# Altium footprint library Bibliotecahpta.PcbLib: 22 footprints (part 1 of 2)
Each footprint in its own frame and in the unit in brackets; x right, y up, seen from the top. Pads: shape width x height; smd on the part's side, far side on the other; paste and mask are expansions set on the pad; w line width, h text height; cw(c..) or ccw(c..) is an arc to the next point about the centre after c.
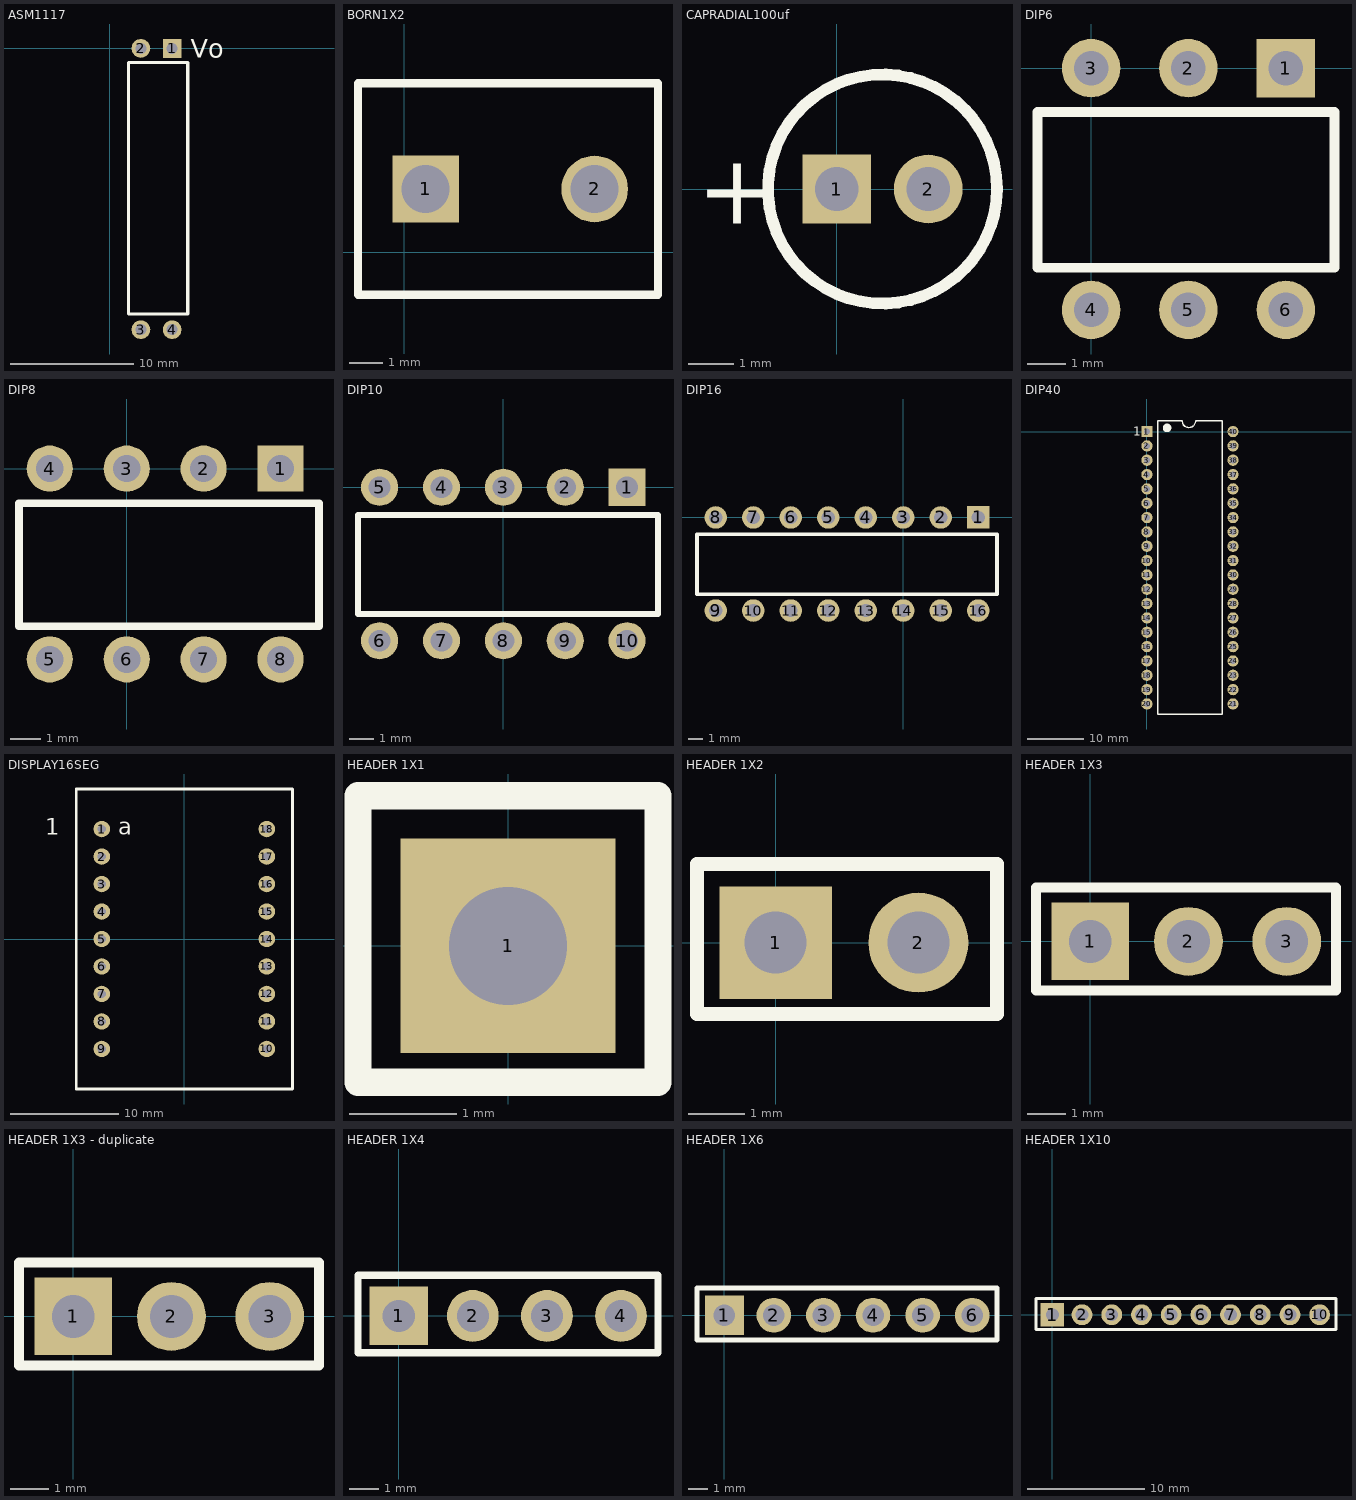
[diagram p0: the footprints below, top view; thin cyan lines are the x and y axes]

## ASM1117 [mil] "Modulo 3.3v"
pads (4):
  rect 60x60 hole 35.43: 1(200,0)
  round 60 hole 35.43: 2(100,0) 3(100,-900) 4(200,-900)
Top Overlay:
  lines w10: 60,-850 250,-850 250,-45 60,-45 60,-850
  text "Vo" at 260,-30 h60

## BORN1X2 [mm]
pads (2):
  rect 2x2 hole 1.45: 1(0.635,1.905)
  round 2 hole 1.45: 2(5.715,1.905)
Top Overlay:
  lines w0.254: -1.397,-1.27 7.62,-1.27 7.62,5.08 -1.397,5.08 -1.397,-1.27

## CAPRADIAL100uf [mm]
pads (2):
  rect 1.5x1.5 hole 0.95: 1(0,0)
  round 1.5 hole 0.95: 2(2,0)
Top Overlay:
  circle w0.254: c1,0 r2.5
  text "+" at -3.048,-0.762 h1.52

## DIP6 [mil]
pads (6):
  rect 60x60 hole 35.43: 1(200,0)
  round 60 hole 35.43: 2(100,0) 3(0,0) 4(0,-248.03) 5(100,-248.03) 6(200,-248.03)
Top Overlay:
  lines w10: -55,-205 -55,-45 250,-45 250,-205 -55,-205

## DIP8 [mil]
pads (8):
  rect 60x60 hole 35.43: 1(200,0)
  round 60 hole 35.43: 2(100,0) 3(0,0) 4(-100,0) 5(-100,-248.03) 6(0,-248.03) 7(100,-248.03) 8(200,-248.03)
Top Overlay:
  lines w10: -140,-205 -140,-45 250,-45 250,-205 -140,-205

## DIP10 [mil]
pads (10):
  rect 60x60 hole 35.43: 1(200,0)
  round 60 hole 35.43: 2(100,0) 3(0,0) 4(-100,0) 5(-200,0) 6(-200,-248.03) 7(-100,-248.03) 8(0,-248.03) 9(100,-248.03) 10(200,-248.03)
Top Overlay:
  lines w10: -235,-205 -235,-45 250,-45 250,-205 -235,-205

## DIP16 [mil]
pads (16):
  rect 60x60 hole 35.43: 1(200,0)
  round 60 hole 35.43: 2(100,0) 3(0,0) 4(-100,0) 5(-200,0) 6(-300,0) 7(-400,0) 8(-500,0) 9(-500,-248.03) 10(-400,-248.03) 11(-300,-248.03) 12(-200,-248.03) 13(-100,-248.03) 14(0,-248.03) 15(100,-248.03) 16(200,-248.03)
Top Overlay:
  lines w10: -550,-205 -550,-45 250,-45 250,-205 -550,-205

## DIP40 [mm]
pads (40):
  rect 2x2 hole 1.1: 1(0,0)
  round 2 hole 1.1: 2(0,-2.54) 3(0,-5.08) 4(0,-7.62) 5(0,-10.16) 6(0,-12.7) 7(0,-15.24) 8(0,-17.78) 9(0,-20.32) 10(0,-22.86) 11(0,-25.4) 12(0,-27.94) 13(0,-30.48) 14(0,-33.02) 15(0,-35.56) 16(0,-38.1) 17(0,-40.64) 18(0,-43.18) 19(0,-45.72) 20(0,-48.26) 21(15.24,-48.26) 22(15.24,-45.72) 23(15.24,-43.18) 24(15.24,-40.64) 25(15.24,-38.1) 26(15.24,-35.56) 27(15.24,-33.02) 28(15.24,-30.48) 29(15.24,-27.94) 30(15.24,-25.4) 31(15.24,-22.86) 32(15.24,-20.32) 33(15.24,-17.78) 34(15.24,-15.24) 35(15.24,-12.7) 36(15.24,-10.16) 37(15.24,-7.62) 38(15.24,-5.08) 39(15.24,-2.54) 40(15.24,0)
Top Overlay:
  circle w0.762: c3.556,0.635 r0.381
  lines w0.254: 1.905,-50.038 1.905,1.905 6.24,1.905 ccw(c7.438,1.905) 8.636,1.905 13.335,1.905 13.335,-50.038 1.905,-50.038
  text "1" at -2.413,-0.762 h1.52

## DISPLAY16SEG [mil]
pads (18):
  round 60 hole 30: 1(-300,400) 2(-300,300) 3(-300,200) 4(-300,100) 5(-300,0) 6(-300,-100) 7(-300,-200) 8(-300,-300) 9(-300,-400) 10(300,-400) 11(300,-300) 12(300,-200) 13(300,-100) 14(300,0) 15(300,100) 16(300,200) 17(300,300) 18(300,400)
Top Overlay:
  lines w10: -393.5,-545.5 -393.5,545.5 393.5,545.5 393.5,-545.5 -393.5,-545.5
  text "1" at -505,380 h60
  text "a" at -240,380 h60

## HEADER 1X1 [mm]
pads (1):
  rect 2x2 hole 1.1: 1(0,0)
Top Overlay:
  lines w0.254: -1.397,-1.27 -1.397,1.397 1.397,1.397 1.397,-1.27 -1.397,-1.27

## HEADER 1X2 [mm]
pads (2):
  rect 2x2 hole 1.1: 1(0,0)
  round 1.778 hole 1.1: 2(2.54,0)
Top Overlay:
  lines w0.254: -1.397,-1.27 -1.397,1.397 3.937,1.397 3.937,-1.27 -1.397,-1.27

## HEADER 1X3 [mm]
pads (3):
  rect 2x2 hole 1.1: 1(0,0)
  round 1.778 hole 1.1: 2(2.54,0) 3(5.08,0)
Top Overlay:
  lines w0.254: -1.397,-1.27 -1.397,1.397 6.35,1.397 6.35,-1.27 -1.397,-1.27

## HEADER 1X3 - duplicate [mm]
pads (3):
  rect 2x2 hole 1.1: 1(0,0)
  round 1.778 hole 1.1: 2(2.54,0) 3(5.08,0)
Top Overlay:
  lines w0.254: -1.397,-1.27 6.35,-1.27 6.35,1.397 -1.397,1.397 -1.397,-1.27

## HEADER 1X4 [mil]
pads (4):
  rect 78.74x78.74 hole 43.31: 1(0,0)
  round 70 hole 43.31: 2(100,0) 3(200,0) 4(300,0)
Top Overlay:
  lines w10: -55,-50 -55,55 350,55 350,-50 -55,-50

## HEADER 1X6 [mil]
pads (6):
  rect 78.74x78.74 hole 43.31: 1(0,0)
  round 70 hole 43.31: 2(100,0) 3(200,0) 4(300,0) 5(400,0) 6(500,0)
Top Overlay:
  lines w10: -55,-50 -55,55 550,55 550,-50 -55,-50

## HEADER 1X10 [mil]
pads (10):
  rect 78.74x78.74 hole 43.31: 1(0,0)
  round 70 hole 43.31: 2(100,0) 3(200,0) 4(300,0) 5(400,0) 6(500,0) 7(600,0) 8(700,0) 9(800,0) 10(900,0)
Top Overlay:
  lines w10: -55,-50 -55,55 955,55 955,-50 -55,-50